# EAGLE library part MSOP-10 (library custom)
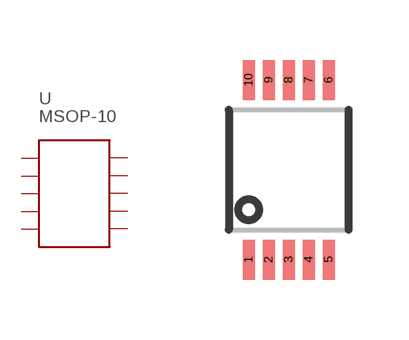
[diagram p47: symbol with the pads of 10-TSSOP; footprint 10-TSSOP]

Designator prefix U

## MSOP-10  [10-TSSOP]
1  P$1
2  P$2
3  P$3
4  P$4
5  P$5
6  P$6
7  P$7
8  P$8
9  P$9
10  P$10

## Footprint 10-TSSOP (pad centres in mm)
smd 0.3 x 1: 1 -1,-2.25; 2 -0.5,-2.25; 3 0,-2.25; 4 0.5,-2.25; 5 1,-2.25; 6 1,2.25; 7 0.5,2.25; 8 0,2.25; 9 -0.5,2.25; 10 -1,2.25